# Altium footprint library KF接口.PcbLib: 2 footprints
Each footprint in its own frame and in the unit in brackets; x right, y up, seen from the top. Pads: shape width x height; smd on the part's side, far side on the other; paste and mask are expansions set on the pad; w line width, h text height; cw(c..) or ccw(c..) is an arc to the next point about the centre after c.
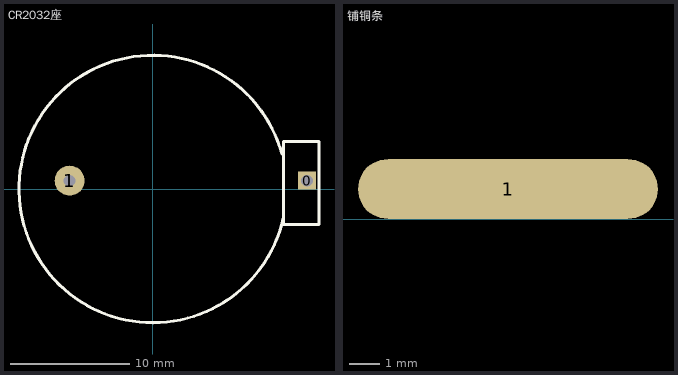
[diagram p0: the footprints below, top view; thin cyan lines are the x and y axes]

## CR2032座 [mm]
height 7.5
pads (2):
  rect 1.524x1.524 hole 1: 0(13,0.7)
  round 2.524 hole 1: 1(-7,0.7)
Top Overlay:
  lines w0.254: 10.867,2.964 ccw(c0,0) 10.984,-2.496 ; 11,-3 11,4 14,4 14,-3 11,-3

## 铺铜条 [mm]
pads (1):
  oval 10x2 smd: 1(10.541,1.016)